# Altium footprint library screwire.PcbLib: 148 footprints (part 4 of 10)
Each footprint in its own frame and in the unit in brackets; x right, y up, seen from the top. Pads: shape width x height; smd on the part's side, far side on the other; paste and mask are expansions set on the pad; w line width, h text height; cw(c..) or ccw(c..) is an arc to the next point about the centre after c.
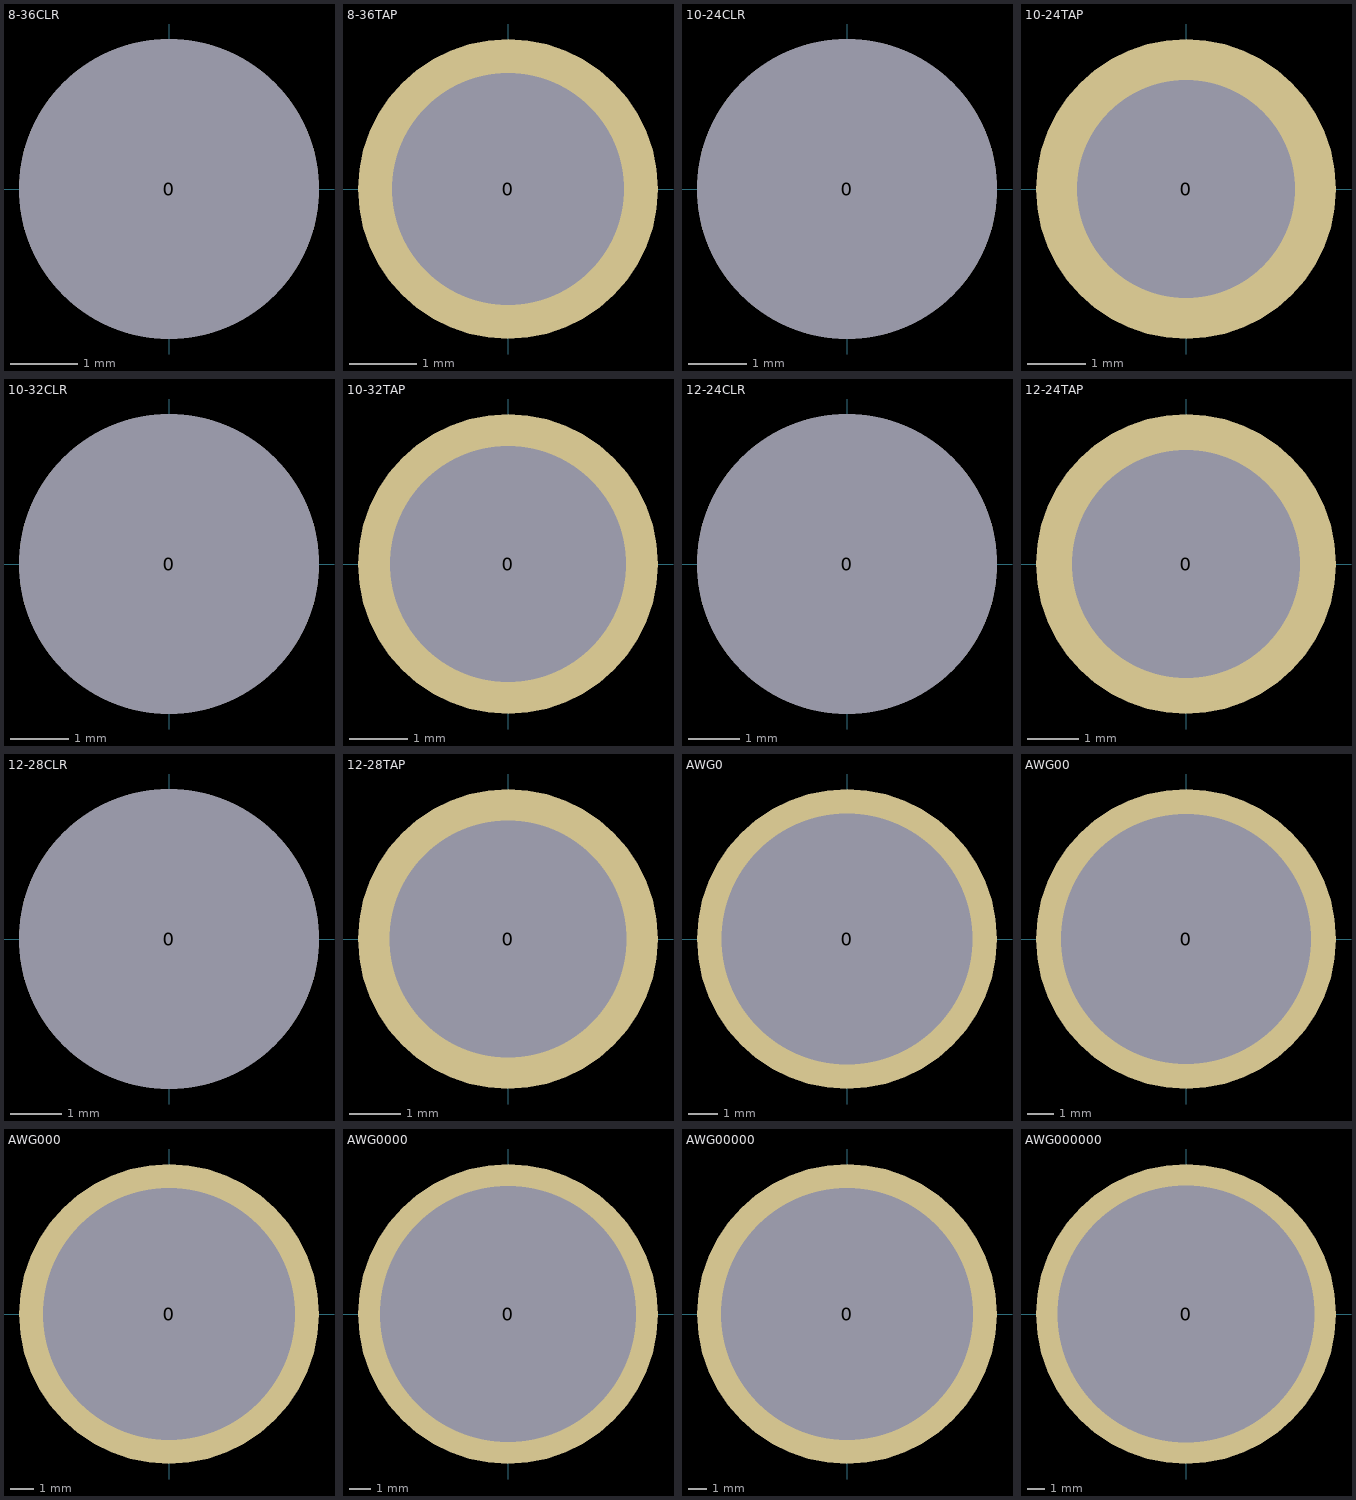
[diagram p3: the footprints below, top view; thin cyan lines are the x and y axes]

## 8-36CLR [mil]
pads (1):
  round 176 hole 176: 0(0,0)

## 8-36TAP [mil]
pads (1):
  round 176 hole 136: 0(0,0)

## 10-24CLR [mil]
pads (1):
  round 202 hole 202: 0(0,0)

## 10-24TAP [mil]
pads (1):
  round 202 hole 147: 0(0,0)

## 10-32CLR [mil]
pads (1):
  round 202 hole 202: 0(0,0)

## 10-32TAP [mil]
pads (1):
  round 202 hole 159: 0(0,0)

## 12-24CLR [mil]
pads (1):
  round 228 hole 228: 0(0,0)

## 12-24TAP [mil]
pads (1):
  round 228 hole 173: 0(0,0)

## 12-28CLR [mil]
pads (1):
  round 228 hole 228: 0(0,0)

## 12-28TAP [mil]
pads (1):
  round 228 hole 180: 0(0,0)

## AWG0 [mil]
pads (1):
  round 400 hole 335: 0(0,0)

## AWG00 [mil]
pads (1):
  round 450 hole 375: 0(0,0)

## AWG000 [mil]
pads (1):
  round 500 hole 420: 0(0,0)

## AWG0000 [mil]
pads (1):
  round 550 hole 470: 0(0,0)

## AWG00000 [mil]
pads (1):
  round 630 hole 530: 0(0,0)

## AWG000000 [mil]
pads (1):
  round 690 hole 590: 0(0,0)